# EAGLE library part MAX603/4 (library postalecki)
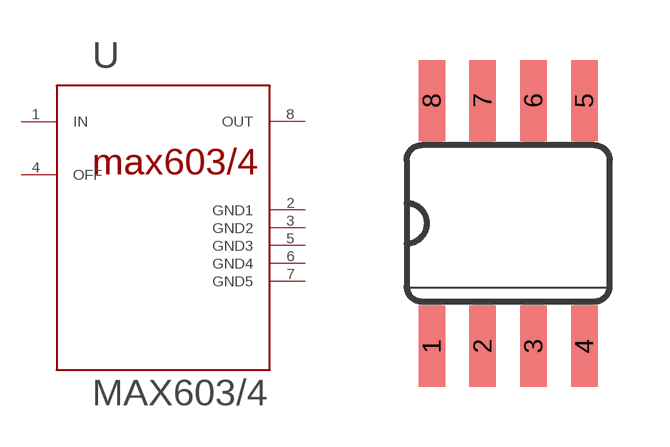
[diagram p2: symbol with the pads of SO8; footprint SO8]

Designator prefix -

## MAX603/4  [SO8]
1  IN
2  GND1
3  GND2
4  OFF
5  GND3
6  GND4
7  GND5
8  OUT

## Footprint SO8 (pad centres in mm)
smd 0.66 x 2.032: 1 -1.905,-3.073; 2 -0.635,-3.073; 3 0.635,-3.073; 4 1.905,-3.073; 5 1.905,3.073; 6 0.635,3.073; 7 -0.635,3.073; 8 -1.905,3.073